# Altium footprint library Resistores.PcbLib: 10 footprints
Each footprint in its own frame and in the unit in brackets; x right, y up, seen from the top. Pads: shape width x height; smd on the part's side, far side on the other; paste and mask are expansions set on the pad; w line width, h text height; cw(c..) or ccw(c..) is an arc to the next point about the centre after c.
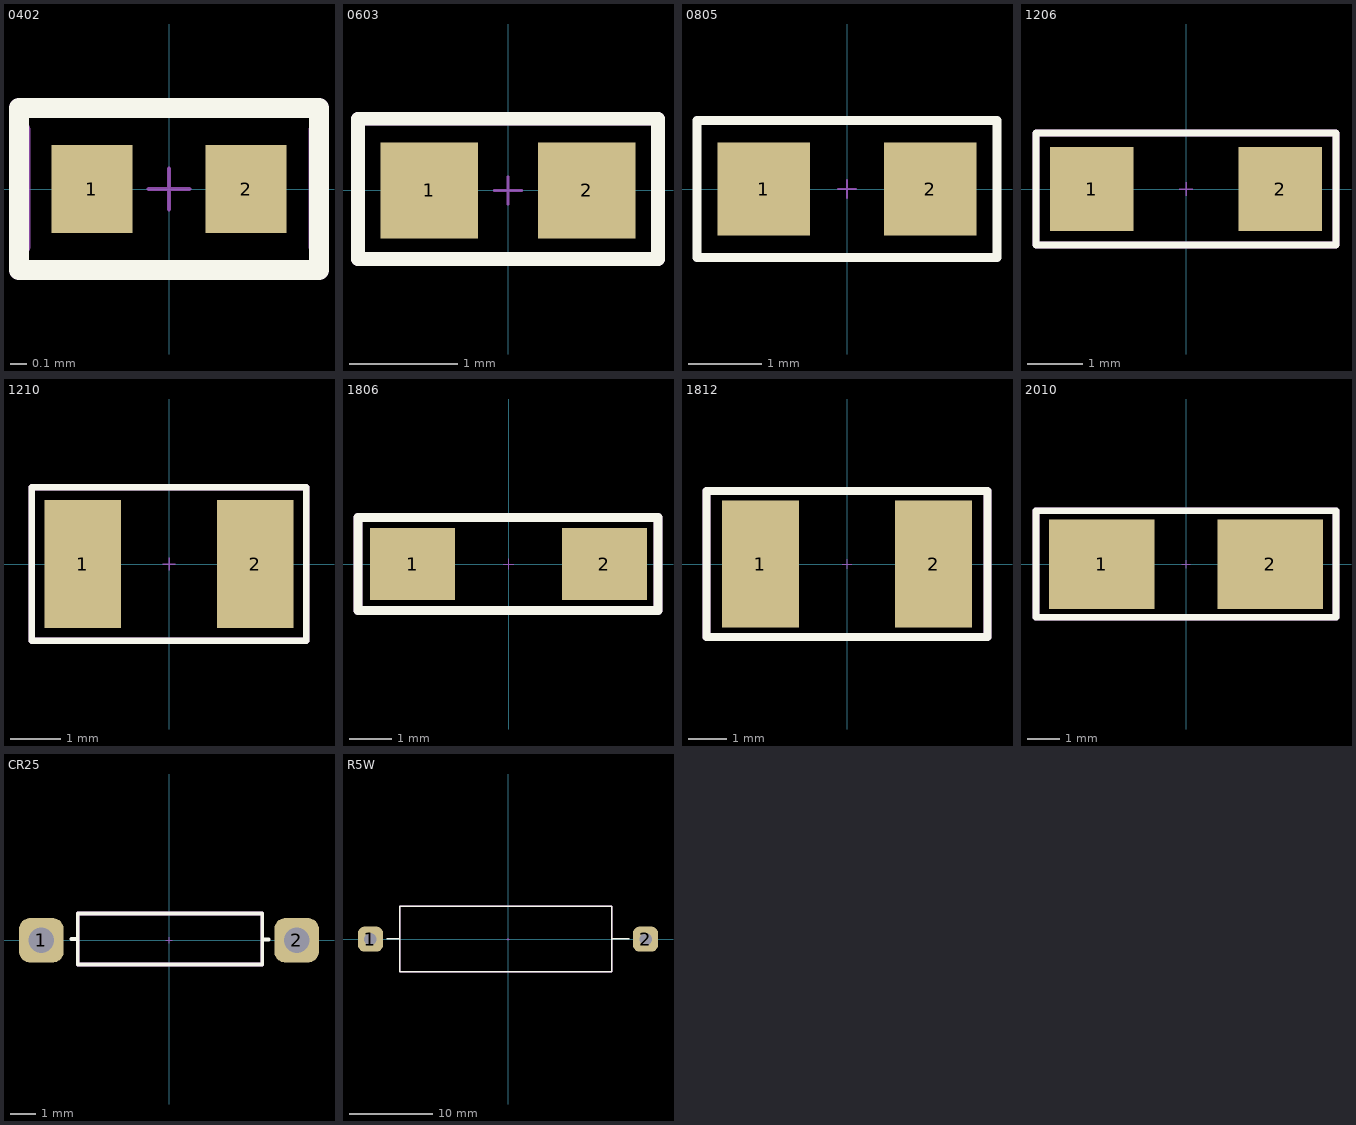
[diagram p0: the footprints below, top view; thin cyan lines are the x and y axes]

## 0402 [mil] "SMD 0402 inch - 1005 mm"
pads (2):
  rect 20x21.65 smd: 1(-19,0) 2(19,0)
Top Overlay:
  lines w5: -37,-20 -37,20 37,20 37,-20 -37,-20
Mechanical 15:
  lines w1: -5,0 0,0 5,0 ; 0,-5 0,5
  lines w5: -36.72,-14.17 -36.72,14.57 ; 36.91,-14.17 36.91,14.57 ; -37,-20 37,-20 37,20 -37,20 -37,-20
3D body "0402E.STEP": height 14.17, standoff -0.39, extent -20.08,-10 20.08,10.47

## 0603 [mil] "SMD 0603 inch - 1608 mm"
pads (2):
  rect 35.43x35 smd: 1(-28.56,0) 2(28.56,0)
Top Overlay:
  lines w5: -54.55,-25 -54.55,26 ; -53.82,-24.98 54.44,-24.98 ; -53.82,26.02 54.44,26.02 ; 54.51,-25 54.51,26
Mechanical 15:
  lines w1: -5,0 0,0 5,0 ; 0,-5 0,5
  lines w5: -54.55,-25 -54.55,26 ; -53.82,-24.98 54.44,-24.98 ; -53.82,26.02 54.44,26.02 ; 54.51,-25 54.51,26
3D body "0603E.STEP": height 18.9, standoff -1.18, extent -31.5,-16.93 31.49,16.93

## 0805 [mil] "SMD 0805 inch - 2012 mm"
pads (2):
  rect 50x50 smd: 1(-45,0) 2(45,0)
Top Overlay:
  lines w5: -81,-37 -81,37 ; -80,-37 81,-37 81,37 -80,37
Mechanical 15:
  lines w1: -5,0 0,0 5,0 ; 0,-5 0,5
3D body "0805E.STEP": height 16.93, standoff -1.18, extent -40,-25 38.74,24.61

## 1206 [mil] "SMD 1206 inch - 3216 mm"
pads (2):
  rect 60x60 smd: 1(-67.5,0) 2(67.5,0)
Top Overlay:
  lines w5: -107.5,-40 -107.5,40 107.5,40 107.5,-40 -107.5,-40
Mechanical 15:
  lines w1: -5,0 0,0 5,0 ; 0,-5 0,5
  lines w5: -107.5,-40 107.5,-40 107.5,40 -107.5,40 -107.5,-40
3D body "1206E.STEP": height 20.87, standoff -1.18, extent -62.5,-33 63.48,32.35

## 1210 [mil] "SMD 1210 inch - 3225 mm"
pads (2):
  rect 60x100 smd: 1(-67.5,0) 2(67.5,0)
Top Overlay:
  lines w5: -107.5,-60 -107.5,60 107.5,60 107.5,-60 -107.5,-60
Mechanical 15:
  lines w1: -5,0 0,0 5,0 ; 0,-5 0,5
  lines w5: -107.5,-60 107.5,-60 107.5,60 -107.5,60 -107.5,-60
3D body "1210E.STEP": height 24.02, standoff -0.39, extent -62.89,-50 63.89,49.21

## 1806 [mm] "SMD 1806 inch -  4516mm"
pads (2):
  rect 2x1.7 smd: 1(-2.25,0) 2(2.25,0)
Top Overlay:
  lines w0.203: -3.531,-1.092 3.505,-1.092 3.505,1.092 -3.531,1.092 -3.531,-1.092
Mechanical 15:
  lines w0.025: -0.127,0 0,0 0.127,0 ; 0,-0.127 0,0.127
  lines w0.203: -3.531,-1.092 -3.531,1.092 3.505,1.092 3.505,-1.092 -3.531,-1.092
3D body "1806.step": height 1.6, standoff 0, extent -2.239,-0.813 2.261,0.787

## 1812 [mm] "SMD 1812 inch -  4532mm"
pads (2):
  rect 2x3.302 smd: 1(-2.25,0) 2(2.25,0)
Top Overlay:
  lines w0.203: -3.653,-1.9 -3.653,1.9 3.653,1.9 3.653,-1.9 -3.653,-1.9
Mechanical 15:
  lines w0.025: -0.127,0 0,0 0.127,0 ; 0,-0.127 0,0.127
  lines w0.203: -3.653,-1.9 3.653,-1.9 3.653,1.9 -3.653,1.9 -3.653,-1.9
3D body "1812E.STEP": height 1.6, standoff 0, extent -2.25,-1.6 2.25,1.6

## 2010 [mil] "SMD 2010 inch - 5025 mm"
pads (2):
  rect 130x110 smd: 1(-103.5,0) 2(103.5,0)
Top Overlay:
  lines w8: -184.5,-65 184.5,-65 184.5,66 -184.5,66 -184.5,-65
Mechanical 15:
  lines w1: -5,0 0,0 5,0 ; 0,-5 0,5
  lines w8: -184.5,-65 -184.5,66 184.5,66 184.5,-65 -184.5,-65
3D body "2010E.STEP": height 24.02, standoff -0.39, extent -98.14,-50 99.5,49.21

## CR25 [mil] "PTH 400 mils"
height 60
pads (2):
  rrect50% 70x70 hole 40: 1(-200,0) 2(200,0)
Top Overlay:
  lines w6: -153,2 -143,2 ; 146,41 146,1 ; 146,42 -143,42 -143,2 ; 156,1 146,1 ; -143,2 -143,-38 146,-38 146,1
Mechanical 15:
  lines w1: -5,0 0,0 5,0 ; 0,-5 0,5
  lines w6: 146,41 146,1 146,-38 -143,-38 -143,2 -143,42 146,42
3D body "SW3dPS-RESISTOR, 0.25 W, 0.4 IN LEAD PITCH.STEP": height 115.5, standoff -100, extent -210,-45 214,46

## R5W [mm] "PTH 400 mils"
height 1.524
pads (2):
  rrect50% 3x3 hole 1.5: 1(-16.5,0) 2(16.5,0)
Top Overlay:
  lines w0.152: -14.57,0.051 -12.995,0.051 ; 14.564,0.025 12.431,0.025 ; -12.995,0.051 -12.995,-3.937 12.431,-3.937 12.431,0.025 ; -12.995,0.051 -12.995,3.962 12.431,3.962 12.431,0.025
Mechanical 15:
  lines w0.025: -0.127,0 0,0 0.127,0 ; 0,-0.127 0,0.127
  lines w0.152: -12.995,-3.937 -12.995,0.051 -12.995,3.962 12.431,3.962 12.431,0.025 12.431,-3.937 -12.995,-3.937
3D body "User Library-Wirewound_5W.STEP": height 10.35, standoff -3, extent -16.925,-4.242 16.895,4.458